# Altium schematic symbol library ftsh-105-01-l-dv-k.SchLib: 1 symbol
Pins are listed as number, name and electrical type; pins without a type are passive.

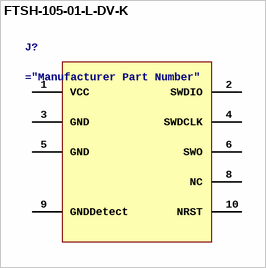
[diagram p0: symbol FTSH-105-01-L-DV-K]

## FTSH-105-01-L-DV-K
designator J?
CONN HEADER 10 POS DUAL .05" SMD
pins: 1 VCC, 2 SWDIO, 3 GND, 4 SWDCLK, 5 GND, 6 SWO, 8 NC, 9 GNDDetect, 10 NRST